# EAGLE library part ACPLC87BT (library custom)
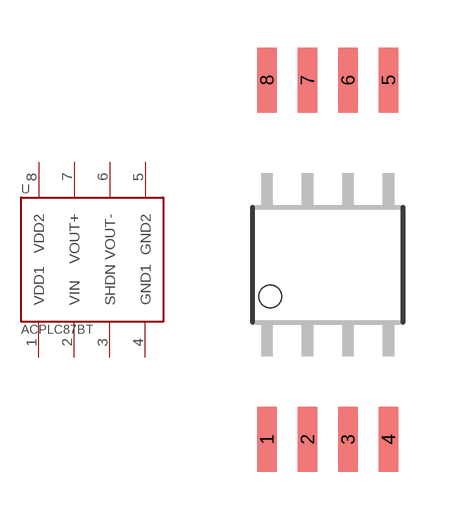
[diagram p4: symbol with the pads of SO8STRETCH; footprint SO8STRETCH]

Designator prefix -

## ACPLC87BT  [SO8STRETCH]
1  VDD1
2  VIN
3  SHDN
4  GND1
5  GND2
6  VOUT-
7  VOUT+
8  VDD2

## Footprint SO8STRETCH (pad centres in mm)
smd 0.61 x 2.032: 1 -1.905,-5.474; 2 -0.635,-5.474; 3 0.635,-5.474; 4 1.905,-5.474; 5 1.905,5.791; 6 0.635,5.791; 7 -0.635,5.791; 8 -1.905,5.791